# EAGLE library part PMOS_D (library MOS)
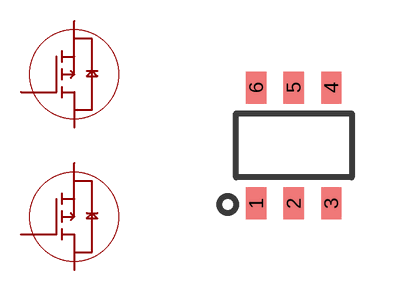
[diagram p0: symbol with the pads of SOT-23-6; footprint SOT-23-6]

Designator prefix Q

## PMOS_D  [SOT-23-6]
1  P$1
2  P$2
3  P$3
4  P$4
5  P$5
6  P$6

## Footprint SOT-23-6 (pad centres in mm)
smd 0.511 x 0.8: 1 -0.94,-1.448; 2 0,-1.448; 3 0.94,-1.448; 4 0.94,1.448; 5 0,1.448; 6 -0.94,1.448